# EAGLE library part STM32_NUCLEO_SHIELD (library Stm32_Nucleo_STM32F446)
STM32 Nucleo Shield STM32F446RE Pinout
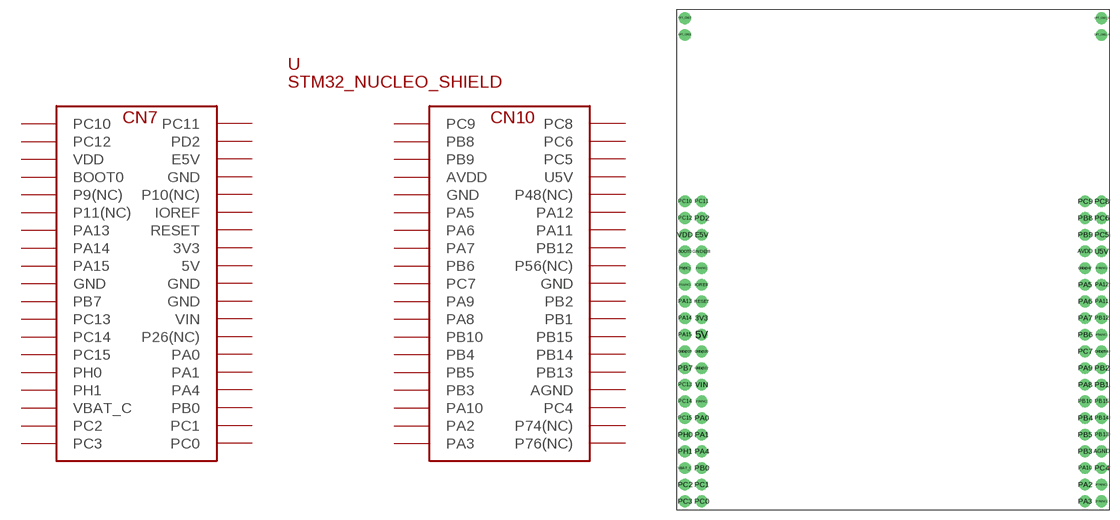
[diagram p0: symbol with the pads of STM32_NUCLEO; footprint STM32_NUCLEO]

Designator prefix -

## STM32_NUCLEO_SHIELD  [STM32_NUCLEO]
3V3  3V3  pwr
5V  5V  pwr
AGND  AGND  pwr
AVDD  AVDD  pwr
BOOT0  BOOT0
E5V  E5V  pwr
GND@8  GND  pwr
GND@19  GND  pwr
GND@20  GND  pwr
GND@22  GND  pwr
GND@47  GND  pwr
GND@58  GND  pwr
IOREF  IOREF
P9(NC)  P9(NC)
P10(NC)  P10(NC)
P11(NC)  P11(NC)
P26(NC)  P26(NC)
P48(NC)  P48(NC)
P56(NC)  P56(NC)
P74(NC)  P74(NC)
P76(NC)  P76(NC)
PA0  PA0
PA1  PA1
PA2  PA2
PA3  PA3
PA4  PA4
PA5  PA5
PA6  PA6
PA7  PA7
PA8  PA8
PA9  PA9
PA10  PA10
PA11  PA11
PA12  PA12
PA13  PA13
PA14  PA14
PA15  PA15
PB0  PB0
PB1  PB1
PB2  PB2
PB3  PB3
PB4  PB4
PB5  PB5
PB6  PB6
PB7  PB7
PB8  PB8
PB9  PB9
PB10  PB10
PB12  PB12
PB13  PB13
PB14  PB14
PB15  PB15
PC0  PC0
PC1  PC1
PC2  PC2
PC3  PC3
PC4  PC4
PC5  PC5
PC6  PC6
PC7  PC7
PC8  PC8
PC9  PC9
PC10  PC10
PC11  PC11
PC12  PC12
PC13  PC13
PC14  PC14
PC15  PC15
PD2  PD2
PH0  PH0
PH1  PH1
RESET  RESET
U5V  U5V  pwr
VBAT_C  VBAT_C  pwr
VDD  VDD  pwr
VIN  VIN  pwr

## Footprint STM32_NUCLEO (pad centres in mm)
STM32 Nucleo Shield
drill 1 pad 1.778: 3V3 -29.21,27.94; 5V -29.21,25.4; AGND 31.75,7.62; AVDD 29.21,38.1; BOOT0 -31.75,38.1; E5V -29.21,40.64; GND@8 -29.21,38.1; GND@19 -31.75,22.86; GND@20 -29.21,22.86; GND@22 -29.21,20.32; GND@47 29.21,35.56; GND@58 31.75,22.86; IOREF -29.21,33.02; OPT_GND1 -31.75,73.66; OPT_GND2 -31.75,71.12; OPT_GND_3 31.75,73.66; OPT_GND_4 31.75,71.12; P9(NC) -31.75,35.56; P10(NC) -29.21,35.56; P11(NC) -31.75,33.02; P26(NC) -29.21,15.24; P48(NC) 31.75,35.56; P56(NC) 31.75,25.4; P74(NC) 31.75,2.54; P76(NC) 31.75,0; PA0 -29.21,12.7; PA1 -29.21,10.16; PA2 29.21,2.54; PA3 29.21,0; PA4 -29.21,7.62; PA5 29.21,33.02; PA6 29.21,30.48; PA7 29.21,27.94; PA8 29.21,17.78; PA9 29.21,20.32; PA10 29.21,5.08; PA11 31.75,30.48; PA12 31.75,33.02; PA13 -31.75,30.48; PA14 -31.75,27.94; PA15 -31.75,25.4; PB0 -29.21,5.08; PB1 31.75,17.78; PB2 31.75,20.32; PB3 29.21,7.62; PB4 29.21,12.7; PB5 29.21,10.16; PB6 29.21,25.4; PB7 -31.75,20.32; PB8 29.21,43.18; PB9 29.21,40.64; PB10 29.21,15.24; PB12 31.75,27.94; PB13 31.75,10.16; PB14 31.75,12.7; PB15 31.75,15.24; PC0 -29.21,0; PC1 -29.21,2.54; PC2 -31.75,2.54; PC3 -31.75,0; PC4 31.75,5.08; PC5 31.75,40.64; PC6 31.75,43.18; PC7 29.21,22.86; PC8 31.75,45.72; PC9 29.21,45.72; PC10 -31.75,45.72; PC11 -29.21,45.72; PC12 -31.75,43.18; PC13 -31.75,17.78; PC14 -31.75,15.24; PC15 -31.75,12.7; PD2 -29.21,43.18; PH0 -31.75,10.16; PH1 -31.75,7.62; RESET -29.21,30.48; U5V 31.75,38.1; VBAT_C -31.75,5.08; VDD -31.75,40.64; VIN -29.21,17.78